# Altium schematic symbol library B105rlc.SchLib: 10 symbols
Pins are listed as number, name and electrical type; pins without a type are passive.

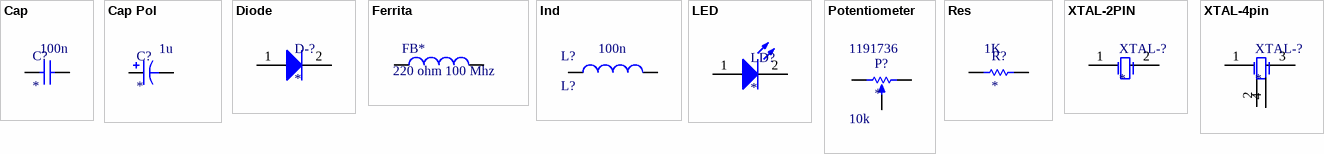
[diagram p0: symbols Cap to XTAL-4pin]

## Cap
designator C?  value 100n
footprint 0402 CAP (Chip Capacitor, Body 1.0x0.5mm, IPC High Density)
footprint 0603 Cap (Chip Capacitor, Body 1.6x0.8mm, IPC High Density)
footprint 0805 CAP (Chip Capacitor, 2-Leads, Body 2,00x1,25mm, IPC Medium Density)
footprint 1206 CAP (Chip Capacitor, 2-Leads, Body 3,20x1,60mm, IPC Medium Density)
footprint 3216 Tantalum (Capacitor, SM Tantalum; Body 3.2 x 1.6 mm (LxW typ))
footprint 6032 Tantalum (Capacitor, SM Tantalum; Body 6.0 x 3.2 mm (LxW typ))
footprint 7343 tantalum (Capacitor, SM Tantalum; Body 7.3 x 4.3 mm (LxW typ))
footprint Cap-Poly-2.5x6.5x7.2mm
footprint Cap-Poly-3.5x8x7.2mm
footprint Cap-Poly-4.2x6.5x9mm
pins: 1, 2

## Cap Pol
designator C?  value 1u
footprint Cap Pol 8x11.5 Pitch 3.5
footprint CAP POL 10x13 Pitch 5mm Low ESR
footprint CAP POL 6.3x11 Pitch 2.5mm
footprint CAP POL 6.3x9 Pitch 2.5mm Low ESR
footprint CAP POL 10x12.5 Pitch 5mm
pins: 1, 2

## Diode
designator D-?
footprint SOD-123 (SODFL, 2-Leads, Body 1,55x3,70mm, IPC Medium Density)
pins: 1 A, 2 C

## Ferrita
designator FB*, comment 220 ohm 100 Mhz
INDUCTOR, 0.04OHM, 3A, 0805; Value: 220 ohm 100 Mhz
footprint 0805 Ind (Chip Capacitor, 2-Leads, Body 2,00x1,25mm, IPC Medium Density)
footprint 1612 Ferrite
pins: 1, 2

## Ind
designator L?, comment L?  value 100n
footprint 0603 IND (Chip Inductor, 2-Leads, Body 1,60x0,80mm, IPC Medium Density)
footprint IND-100uH-5.4A- Bourns (Precision Wire Wound Inductor, 2-Leads, Body 10,00x10,00mm, IPC Medium Density)
footprint IND-330uH-TYS6045331M
footprint IND-22uH-MCSD43-220MU
footprint IND-1UH-MPLCG0530L1R0
pins: 1, 2

## LED
designator LD?
footprint 0603 LED-BLUE (LED, Body 1.6x0.8mm, IPC High Density)
footprint 0603 LED-Green (LED, Body 1.6x0.8mm, IPC High Density)
footprint 0603 LED-RED (LED, Body 1.6x0.8mm, IPC High Density)
footprint LED BLUE 3mm
footprint LED GREEN 3mm
footprint LED RED 3mm
pins: 1 A, 2 C

## Potentiometer
designator P?  value 10k  Supplier Part Number 1: 1191736
Supplier 1: Farnell
footprint ALPS Potentiometer 10K
pins: 1, 2, 3

## Res
designator R?  value 1K
footprint 1206 RES (Chip Resistor, 2-Leads, Body 3,20x1,60mm, IPC Medium Density)
footprint 0.25W RES
footprint 0603 Res (Chip Resistor, Body 1.6x0.8mm, IPC High Density)
footprint 0805 Res (Chip Capacitor, 2-Leads, Body 2,0x1,3mm, IPC Medium Density)
pins: 1, 2

## XTAL-2PIN
designator XTAL-?
footprint XTAL2PIN-5mmx3.2mm (Molded Capacitor, 2-Leads, Body 5,00x3,20mm, IPC Medium Density)
pins: 1 OSC1, 2 OSC2

## XTAL-4pin
designator XTAL-?
footprint XTAL-4PIN-3.2x5mm (XTAL-4PIN-3.2mmx2mm)
pins: 1 OSC1, 2 GND, 3 OSC2, 4 GND